# EAGLE library part LSM6DS3-GY-NB2023 (library NA-2025)
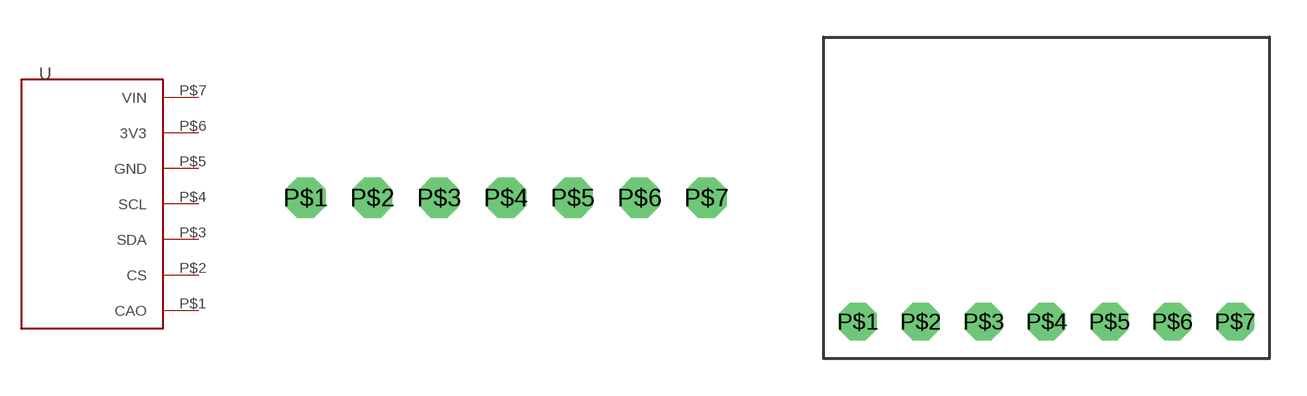
[diagram p38: symbol with the pads of LSM6DS3-GY-NB2023; footprints LSM6DS3-GY-NB2023, LSM6DS3-GY-NB2023-1]

Designator prefix -

## LSM6DS3-GY-NB2023  [LSM6DS3-GY-NB2023]
P$1  CAO
P$2  CS
P$3  SDA
P$4  SCL
P$5  GND
P$6  3V3
P$7  VIN

## LSM6DS3-GY-NB2023Без_отв.  [LSM6DS3-GY-NB2023-1]
Pads as for LSM6DS3-GY-NB2023

## Footprint LSM6DS3-GY-NB2023 (pad centres in mm)
drill 1.016 octagon: P$1 -7.62,-5; P$2 -5.08,-5; P$3 -2.54,-5; P$4 0,-5; P$5 2.54,-5; P$6 5.08,-5; P$7 7.62,-5

## Footprint LSM6DS3-GY-NB2023-1 (pad centres in mm)
drill 1.016 octagon: P$1 -7.62,-5; P$2 -5.08,-5; P$3 -2.54,-5; P$4 0,-5; P$5 2.54,-5; P$6 5.08,-5; P$7 7.62,-5